# Altium schematic symbol library aiskylab-14Connectors-18Audio-VideoCon.SchLib: 1 symbol
Pins are listed as number, name and electrical type; pins without a type are passive.

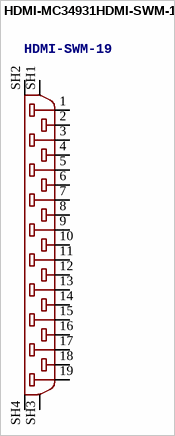
[diagram p0: symbol HDMI-MC34931HDMI-SWM-19]

## HDMI-MC34931HDMI-SWM-19
designator HDMI?, comment HDMI-SWM-19
footprint HDMI-SWM-19
pins: 1, 2, 3, 4, 5, 6, 7, 8, 9, 10, 11, 12, 13, 14, 15, 16, 17, 18, 19, SH1 20, SH2 21, SH3 22, SH4 23